# Altium schematic symbol library MCP23009.SchLib: 1 symbol
Pins are listed as number, name and electrical type; pins without a type are passive.

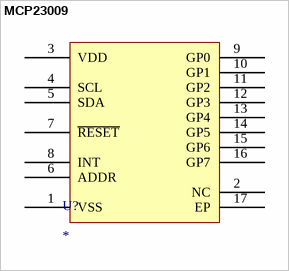
[diagram p0: symbol MCP23009]

## MCP23009
designator U?
pins: 1 VSS, 2 NC, 3 VDD, 4 SCL, 5 SDA, 6 ADDR, 7 ~{RESET}, 8 INT, 9 GP0, 10 GP1, 11 GP2, 12 GP3, 13 GP4, 14 GP5, 15 GP6, 16 GP7, 17 EP